# EAGLE library part STPM34 (library smtp34)
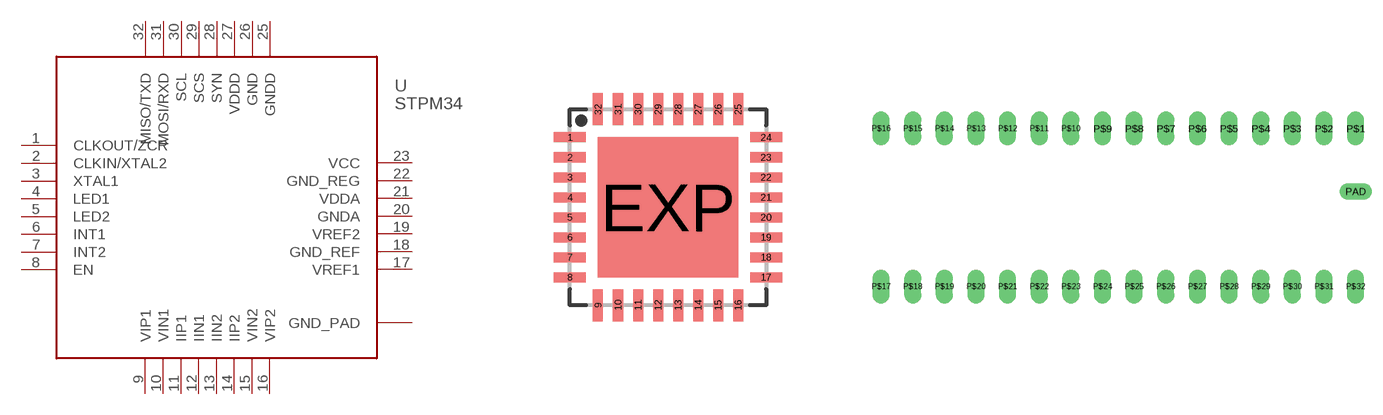
[diagram p0: symbol with the pads of QFN32; footprints QFN32, DIP32]

Designator prefix -

## STPM34  [QFN32]
1  CLKOUT/ZCR
2  CLKIN/XTAL2
3  XTAL1
4  LED1
5  LED2
6  INT1
7  INT2
8  EN
9  VIP1
10  VIN1
11  IIP1
12  IIN1
13  IIN2
14  IIP2
15  VIN2
16  VIP2
17  VREF1  pwr
18  GND_REF  pwr
19  VREF2  pwr
20  GNDA  pwr
21  VDDA  pwr
22  GND_REG  pwr
23  VCC  pwr
25  GNDD  pwr
26  GND  pwr
27  VDDD  pwr
28  SYN
29  SCS
30  SCL
31  MOSI/RXD
32  MISO/TXD
EXP  GND_PAD  pwr

## STPM34DIP  [DIP32]
P$1  CLKOUT/ZCR
P$2  CLKIN/XTAL2
P$3  XTAL1
P$4  LED1
P$5  LED2
P$6  INT1
P$7  INT2
P$8  EN
P$9  VIP1
P$10  VIN1
P$11  IIP1
P$12  IIN1
P$13  IIN2
P$14  IIP2
P$15  VIN2
P$16  VIP2
P$17  VREF1  pwr
P$18  GND_REF  pwr
P$19  VREF2  pwr
P$20  GNDA  pwr
P$21  VDDA  pwr
P$22  GND_REG  pwr
P$23  VCC  pwr
P$25  GNDD  pwr
P$26  GND  pwr
P$27  VDDD  pwr
P$28  SYN
P$29  SCS
P$30  SCL
P$31  MOSI/RXD
P$32  MISO/TXD
PAD  GND_PAD  pwr

## Footprint QFN32 (pad centres in mm)
QFN 32 5 x 5 mm Source: www.qprox.com ... QT1106_-8IR0.07-16262.pdf
smd 0.8 x 0.25: 1 -2.45,1.75; 2 -2.45,1.25; 3 -2.45,0.75; 4 -2.45,0.25; 5 -2.45,-0.25; 6 -2.45,-0.75; 7 -2.45,-1.25; 8 -2.45,-1.75; 17 2.45,-1.75; 18 2.45,-1.25; 19 2.45,-0.75; 20 2.45,-0.25; 21 2.45,0.25; 22 2.45,0.75; 23 2.45,1.25; 24 2.45,1.75
smd 0.25 x 0.8: 9 -1.75,-2.45; 10 -1.25,-2.45; 11 -0.75,-2.45; 12 -0.25,-2.45; 13 0.25,-2.45; 14 0.75,-2.45; 15 1.25,-2.45; 16 1.75,-2.45; 25 1.75,2.45; 26 1.25,2.45; 27 0.75,2.45; 28 0.25,2.45; 29 -0.25,2.45; 30 -0.75,2.45; 31 -1.25,2.45; 32 -1.75,2.45
smd 3.5 x 3.5: EXP 0,0

## Footprint DIP32 (pad centres in mm)
drill 0.85 long: P$1 19.05,6.35; P$2 16.51,6.35; P$3 13.97,6.35; P$4 11.43,6.35; P$5 8.89,6.35; P$6 6.35,6.35; P$7 3.81,6.35; P$8 1.27,6.35; P$9 -1.27,6.35; P$10 -3.81,6.35; P$11 -6.35,6.35; P$12 -8.89,6.35; P$13 -11.43,6.35; P$14 -13.97,6.35; P$15 -16.51,6.35; P$16 -19.05,6.35; P$17 -19.05,-6.35; P$18 -16.51,-6.35; P$19 -13.97,-6.35; P$20 -11.43,-6.35; P$21 -8.89,-6.35; P$22 -6.35,-6.35; P$23 -3.81,-6.35; P$24 -1.27,-6.35; P$25 1.27,-6.35; P$26 3.81,-6.35; P$27 6.35,-6.35; P$28 8.89,-6.35; P$29 11.43,-6.35; P$30 13.97,-6.35; P$31 16.51,-6.35; P$32 19.05,-6.35
drill 0.8 long: PAD 19.05,1.27